# Altium schematic symbol library MFU0603FF00500P500.SchLib: 2 symbols
Pins are listed as number, name and electrical type; pins without a type are passive.

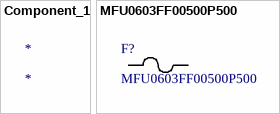
[diagram p0: symbols Component_1 to MFU0603FF00500P500]

## Component_1
designator *

## MFU0603FF00500P500
designator F?
No Description Available; Mfr_Name: Vishay; Type: DEV; Copyright: Copyright (C) 2023 Ultra Librarian. All rights reserved.; Manufacturer_Part_Number: MFU0603FF00500P500; RefDes: RefDes
footprint FUS_VISHAY_MFU0603_VIS
pins: 1, 2